# EAGLE library part BASICTIGER (library digital)
BASIC-Tiger: Microcontroller (Wilke Technologies)
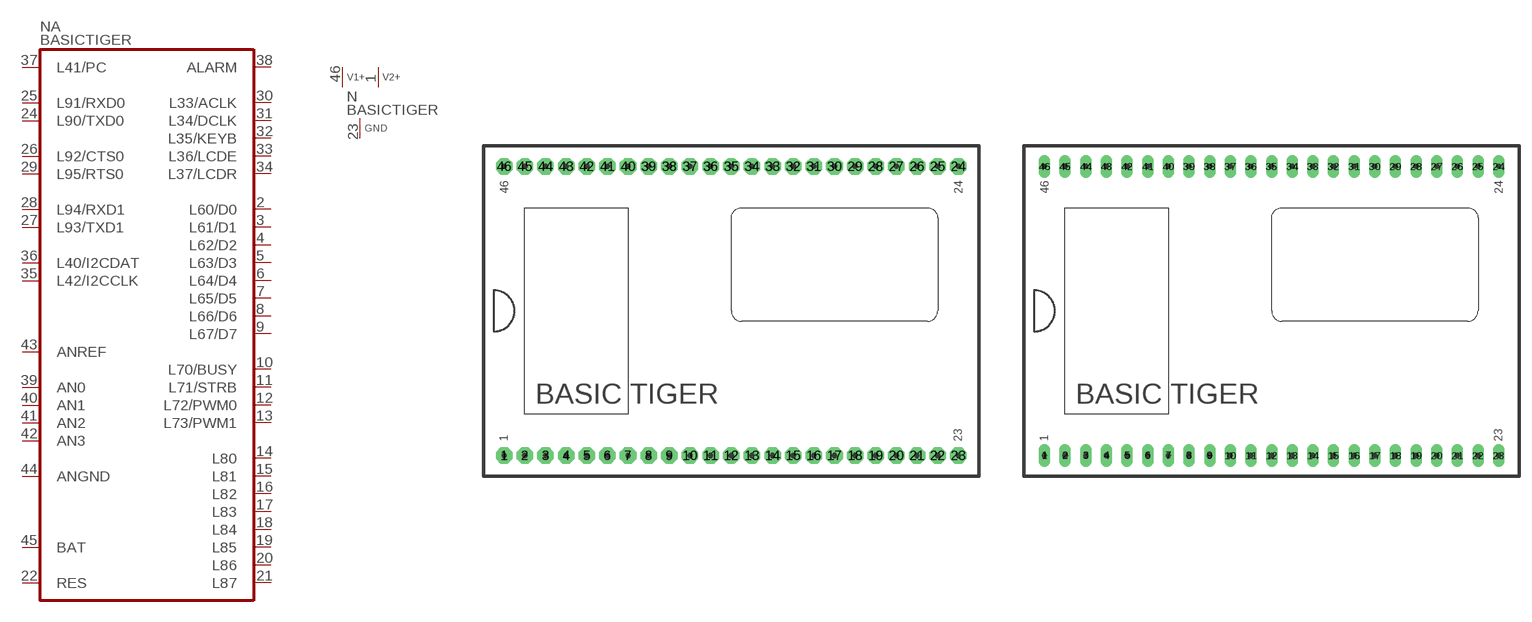
[diagram p46: symbol with the pads of BASICTIGER_N; footprints BASICTIGER_N, BASICTIGER_L]

Designator prefix N; gates A=BASICTIGER P=VTIGER

## BASICTIGERN  [BASICTIGER_N]
1  P:V2+  pwr
2  A:L60/D0
3  A:L61/D1
4  A:L62/D2
5  A:L63/D3
6  A:L64/D4
7  A:L65/D5
8  A:L66/D6
9  A:L67/D7
10  A:L70/BUSY
11  A:L71/STRB
12  A:L72/PWM0
13  A:L73/PWM1
14  A:L80
15  A:L81
16  A:L82
17  A:L83
18  A:L84
19  A:L85
20  A:L86
21  A:L87
22  A:RES  in
23  P:GND  pwr
24  A:L90/TXD0
25  A:L91/RXD0
26  A:L92/CTS0
27  A:L93/TXD1
28  A:L94/RXD1
29  A:L95/RTS0
30  A:L33/ACLK
31  A:L34/DCLK
32  A:L35/KEYB
33  A:L36/LCDE
34  A:L37/LCDR
35  A:L42/I2CCLK
36  A:L40/I2CDAT
37  A:L41/PC
38  A:ALARM  out
39  A:AN0  in
40  A:AN1  in
41  A:AN2  in
42  A:AN3  in
43  A:ANREF  in
44  A:ANGND  in
45  A:BAT
46  P:V1+  pwr

## BASICTIGER  [BASICTIGER_L]
Pads as for BASICTIGER_N

## BASICTIGERL  [BASICTIGER_L]
Pads as for BASICTIGER_N

## BASICTIGERR  [BASICTIGER_R]
Pads as for BASICTIGER_N

## Footprint BASICTIGER_N (pad centres in mm)
BASIC-Tiger: Microcontroller case (Wilke Technologies) Hybrid IC, 28 pins
drill 0.813 pad 2.032 octagon: 1 0,0; 2 2.54,0; 3 5.08,0; 4 7.62,0; 5 10.16,0; 6 12.7,0; 7 15.24,0; 8 17.78,0; 9 20.32,0; 10 22.86,0; 11 25.4,0; 12 27.94,0; 13 30.48,0; 14 33.02,0; 15 35.56,0; 16 38.1,0; 17 40.64,0; 18 43.18,0; 19 45.72,0; 20 48.26,0; 21 50.8,0; 22 53.34,0; 23 55.88,0; 24 55.88,35.56; 25 53.34,35.56; 26 50.8,35.56; 27 48.26,35.56; 28 45.72,35.56; 29 43.18,35.56; 30 40.64,35.56; 31 38.1,35.56; 32 35.56,35.56; 33 33.02,35.56; 34 30.48,35.56; 35 27.94,35.56; 36 25.4,35.56; 37 22.86,35.56; 38 20.32,35.56; 39 17.78,35.56; 40 15.24,35.56; 41 12.7,35.56; 42 10.16,35.56; 43 7.62,35.56; 44 5.08,35.56; 45 2.54,35.56; 46 0,35.56

## Footprint BASICTIGER_L (pad centres in mm)
BASIC-Tiger: Microcontroller case (Wilke Technologies) Hybrid IC, 28 pins, long pads
drill 0.813 pad 1.397 long: 1 0,0; 2 2.54,0; 3 5.08,0; 4 7.62,0; 5 10.16,0; 6 12.7,0; 7 15.24,0; 8 17.78,0; 9 20.32,0; 10 22.86,0; 11 25.4,0; 12 27.94,0; 13 30.48,0; 14 33.02,0; 15 35.56,0; 16 38.1,0; 17 40.64,0; 18 43.18,0; 19 45.72,0; 20 48.26,0; 21 50.8,0; 22 53.34,0; 23 55.88,0; 24 55.88,35.56; 25 53.34,35.56; 26 50.8,35.56; 27 48.26,35.56; 28 45.72,35.56; 29 43.18,35.56; 30 40.64,35.56; 31 38.1,35.56; 32 35.56,35.56; 33 33.02,35.56; 34 30.48,35.56; 35 27.94,35.56; 36 25.4,35.56; 37 22.86,35.56; 38 20.32,35.56; 39 17.78,35.56; 40 15.24,35.56; 41 12.7,35.56; 42 10.16,35.56; 43 7.62,35.56; 44 5.08,35.56; 45 2.54,35.56; 46 0,35.56

## Footprint BASICTIGER_R (pad centres in mm)
BASIC-Tiger: Microcontroller case (Wilke Technologies) Hybrid IC, 28 pins, reduced pads
drill 0.813 pad 1.397 square: 1 0,0; 2 2.54,0; 3 5.08,0; 4 7.62,0; 5 10.16,0; 6 12.7,0; 7 15.24,0; 8 17.78,0; 9 20.32,0; 10 22.86,0; 11 25.4,0; 12 27.94,0; 13 30.48,0; 14 33.02,0; 15 35.56,0; 16 38.1,0; 17 40.64,0; 18 43.18,0; 19 45.72,0; 20 48.26,0; 21 50.8,0; 22 53.34,0; 23 55.88,0; 24 55.88,35.56; 25 53.34,35.56; 26 50.8,35.56; 27 48.26,35.56; 28 45.72,35.56; 29 43.18,35.56; 30 40.64,35.56; 31 38.1,35.56; 32 35.56,35.56; 33 33.02,35.56; 34 30.48,35.56; 35 27.94,35.56; 36 25.4,35.56; 37 22.86,35.56; 38 20.32,35.56; 39 17.78,35.56; 40 15.24,35.56; 41 12.7,35.56; 42 10.16,35.56; 43 7.62,35.56; 44 5.08,35.56; 45 2.54,35.56; 46 0,35.56